# EAGLE library part DPDT-HK19F (library TA_library)
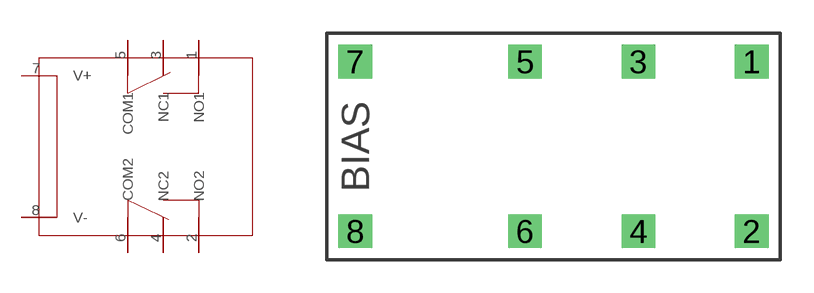
[diagram p1: symbol with the pads of DPDT-HK19F; footprint DPDT-HK19F]

Designator prefix -

## DPDT-HK19F  [DPDT-HK19F]
1  NO1
2  NO2
3  NC1
4  NC2
5  COM1
6  COM2
7  V+
8  V-

## Footprint DPDT-HK19F (pad centres in mm)
drill 1 square: 1 8.89,3.81; 2 8.89,-3.81; 3 3.81,3.81; 4 3.81,-3.81; 5 -1.27,3.81; 6 -1.27,-3.81; 7 -8.89,3.81; 8 -8.89,-3.81